# Altium footprint library BEADC160X80X95L30N.PcbLib: 1 footprints
Each footprint in its own frame and in the unit in brackets; x right, y up, seen from the top. Pads: shape width x height; smd on the part's side, far side on the other; paste and mask are expansions set on the pad; w line width, h text height; cw(c..) or ccw(c..) is an arc to the next point about the centre after c.
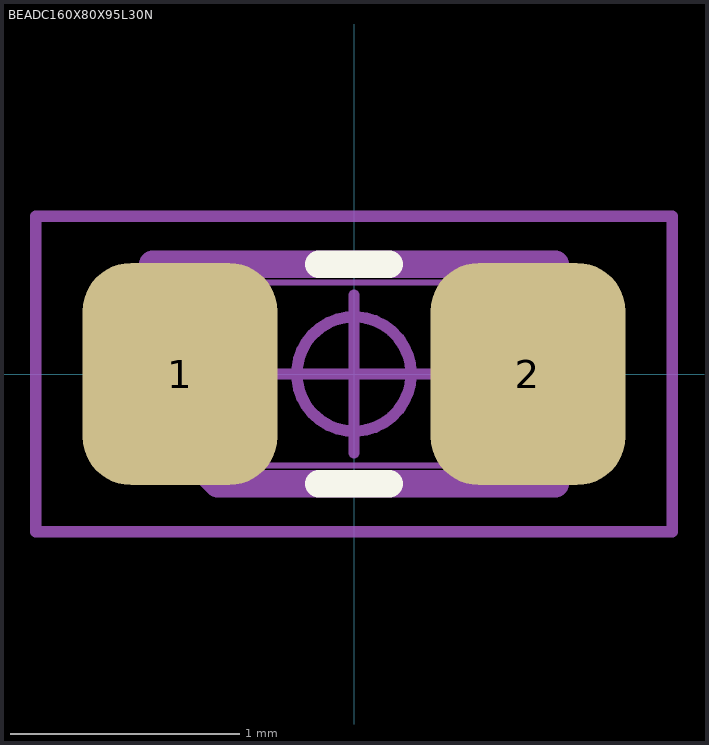
[diagram p0: the footprint, top view; thin cyan lines are the x and y axes]

## BEADC160X80X95L30N [mm] "Ferrite Bead, Chip; 1.60 mm L X 0.80 mm W X 0.95 mm H body"
height 0.95
pads (2):
  rrect49% 0.85x0.97 smd: 1(-0.76,0) 2(0.76,0)
Top Overlay:
  lines w0.12: -0.155,-0.48 0.155,-0.48 ; -0.155,0.48 0.155,0.48
Mechanical 3:
  lines w0.12: -0.88,-0.195 -0.595,-0.48 0.88,-0.48 0.88,0.48 -0.88,0.48 -0.88,-0.195
Mechanical 5:
  lines w0.025: -0.8,-0.4 -0.5,-0.4 -0.5,0.4 -0.8,0.4 ; -0.8,-0.4 -0.8,0.4 ; -0.8,-0.4 -0.8,0.4 ; -0.8,-0.4 0.8,-0.4 ; -0.8,0.4 0.8,0.4 ; 0.8,-0.4 0.8,0.4 ; 0.8,-0.4 0.5,-0.4 0.5,0.4 0.8,0.4 ; 0.8,-0.4 0.8,0.4
Mechanical 7:
  circle w0.05: c0,0 r0.25
  lines w0.05: -0.345,0 0.345,0 ; 0,-0.345 0,0.345 ; -1.39,-0.69 -1.39,0.69 1.39,0.69 1.39,-0.69 -1.39,-0.69
Mechanical 9:
  text "'.Designator'" at -5.155,-0.254 h1
3D body "BEADC160X80X95L30.STEP": height 0.95, standoff 0, extent -0.8,-0.4 0.8,0.4
3D body: height 0.03, standoff 0, extent -1.4,-0.7 1.4,0.7
3D body: height 1.04, standoff 0, extent -1.39,-0.69 1.39,0.69